# Altium schematic symbol library CONN_2PIN_F.SchLib: 1 symbol
Pins are listed as number, name and electrical type; pins without a type are passive.

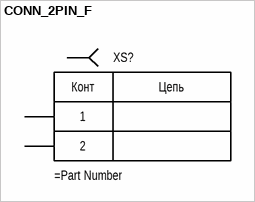
[diagram p0: symbol CONN_2PIN_F]

## CONN_2PIN_F
designator XS?
pins: 1, 2
text: Конт; Цепь